# EAGLE library part ISP1504 (library Traficon)
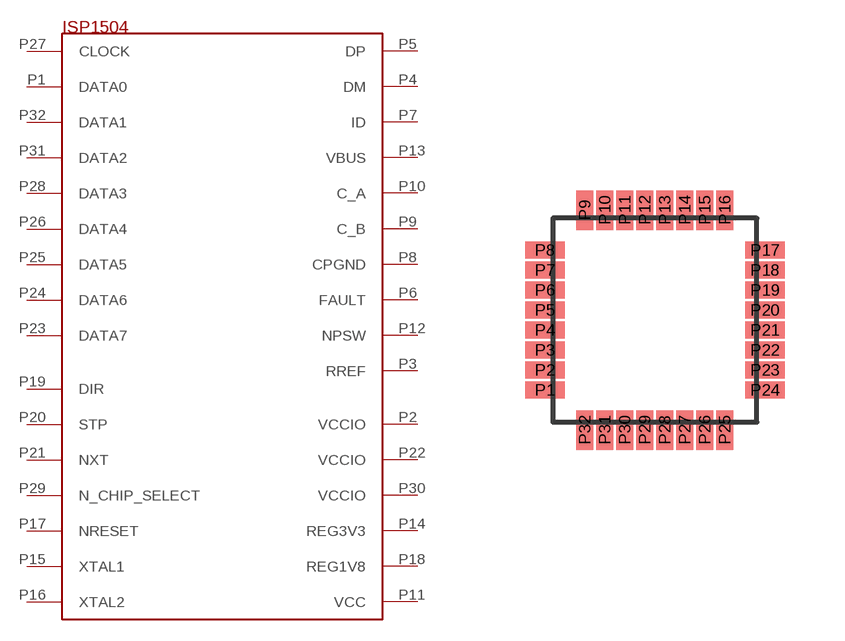
[diagram p120: symbol with the pads of HVQFN32; footprint HVQFN32]

Designator prefix U

## ISP1504  [HVQFN32]
P1  DATA0
P2  VCCIO
P3  RREF
P4  DM
P5  DP
P6  FAULT
P7  ID
P8  CPGND
P9  C_B
P10  C_A
P11  VCC
P12  NPSW
P13  VBUS
P14  REG3V3
P15  XTAL1
P16  XTAL2
P17  NRESET
P18  REG1V8
P19  DIR
P20  STP
P21  NXT
P22  VCCIO
P23  DATA7
P24  DATA6
P25  DATA5
P26  DATA4
P27  CLOCK
P28  DATA3
P29  N_CHIP_SELECT
P30  VCCIO
P31  DATA2
P32  DATA1

## Footprint HVQFN32 (pad centres in mm)
smd 0.99 x 0.42: P1 -2.75,-1.75; P2 -2.75,-1.25; P3 -2.75,-0.75; P4 -2.75,-0.25; P5 -2.75,0.25; P6 -2.75,0.75; P7 -2.75,1.25; P8 -2.75,1.75; P17 2.75,1.75; P18 2.75,1.25; P19 2.75,0.75; P20 2.75,0.25; P21 2.75,-0.25; P22 2.75,-0.75; P23 2.75,-1.25; P24 2.75,-1.75
smd 0.42 x 0.99: P9 -1.75,2.75; P10 -1.25,2.75; P11 -0.75,2.75; P12 -0.25,2.75; P13 0.25,2.75; P14 0.75,2.75; P15 1.25,2.75; P16 1.75,2.75; P25 1.75,-2.75; P26 1.25,-2.75; P27 0.75,-2.75; P28 0.25,-2.75; P29 -0.25,-2.75; P30 -0.75,-2.75; P31 -1.25,-2.75; P32 -1.75,-2.75